# Altium schematic symbol library CD4049UBE.SchLib: 1 symbol
Pins are listed as number, name and electrical type; pins without a type are passive.

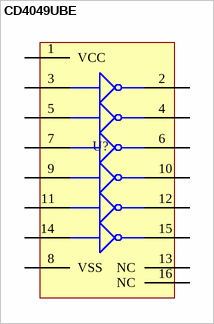
[diagram p0: symbol CD4049UBE]

## CD4049UBE
designator U?
6-ch, 3-V to 18-V inverters
pins: 1 VCC, 2 G, 3 A, 4 H, 5 B, 6 I, 7 C, 8 VSS, 9 D, 10 J, 11 E, 12 K, 13 NC, 14 F, 15 L, 16 NC